# Altium footprint library Connector_PinSocket_2.00mm.PcbLib: 278 footprints (part 2 of 18)
Each footprint in its own frame and in the unit in brackets; x right, y up, seen from the top. Pads: shape width x height; smd on the part's side, far side on the other; paste and mask are expansions set on the pad; w line width, h text height; cw(c..) or ccw(c..) is an arc to the next point about the centre after c.
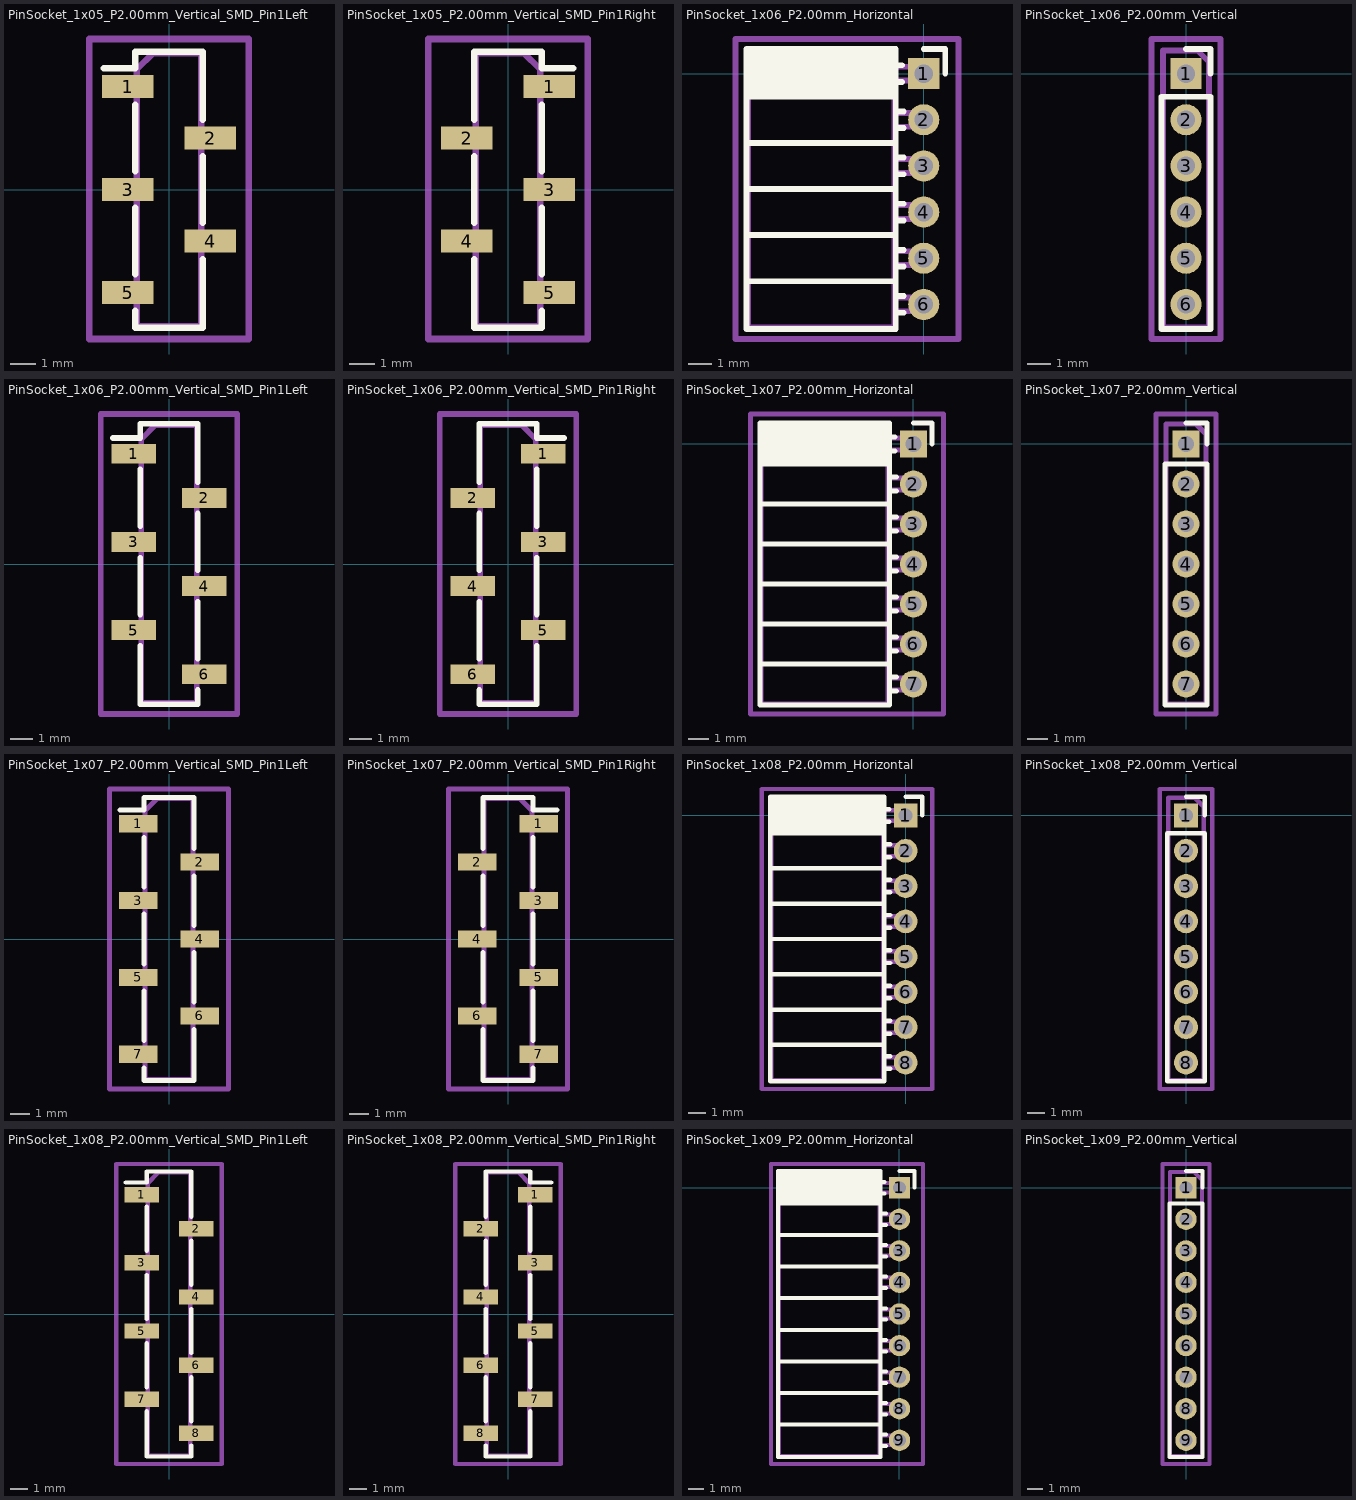
[diagram p1: the footprints below, top view; thin cyan lines are the x and y axes]

## PinSocket_1x05_P2.00mm_Vertical_SMD_Pin1Left [mm]
pads (5):
  rect 2x0.9 smd: 1(-1.6,4) 2(1.6,2) 3(-1.6,0) 4(1.6,-2) 5(-1.6,-4)
F.SilkS:
  lines w0.254: -2.54,4.71 -1.31,4.71 -1.31,5.36 1.31,5.36 1.31,2.71 ; -1.31,-4.71 -1.31,-5.36 1.31,-5.36 1.31,-2.71 ; -1.31,-3.29 -1.31,-0.71 ; -1.31,0.71 -1.31,3.29 ; 1.31,-1.29 1.31,1.29
Top Assembly:
  lines w0.254: -1.25,-4.25 -2.1,-4.25 -2.1,-3.75 -1.25,-3.75 ; -1.25,-0.25 -2.1,-0.25 -2.1,0.25 -1.25,0.25 ; -1.25,3.75 -2.1,3.75 -2.1,4.25 -1.25,4.25 ; 1.25,-2.25 2.1,-2.25 2.1,-1.75 1.25,-1.75 ; 1.25,1.75 2.1,1.75 2.1,2.25 1.25,2.25 ; -1.25,-5.3 1.25,-5.3 1.25,5.3 -0.625,5.3 -1.25,4.675 -1.25,-5.3
  text "'.Designator'" at 0.84,-4.047 h1
Top Courtyard:
  lines w0.254: -3.1,-5.8 3.1,-5.8 3.1,5.85 -3.1,5.85 -3.1,-5.8
Top Designator:
  text ".Designator" at -7.618,-0.483 h1.52

## PinSocket_1x05_P2.00mm_Vertical_SMD_Pin1Right [mm]
pads (5):
  rect 2x0.9 smd: 1(1.6,4) 2(-1.6,2) 3(1.6,0) 4(-1.6,-2) 5(1.6,-4)
F.SilkS:
  lines w0.254: -1.31,-2.71 -1.31,-5.36 1.31,-5.36 1.31,-4.71 ; -1.31,-1.29 -1.31,1.29 ; -1.31,2.71 -1.31,5.36 1.31,5.36 1.31,4.71 2.54,4.71 ; 1.31,-3.29 1.31,-0.71 ; 1.31,0.71 1.31,3.29
Top Assembly:
  lines w0.254: -1.25,-2.25 -2.1,-2.25 -2.1,-1.75 -1.25,-1.75 ; -1.25,1.75 -2.1,1.75 -2.1,2.25 -1.25,2.25 ; 1.25,-4.25 2.1,-4.25 2.1,-3.75 1.25,-3.75 ; 1.25,-0.25 2.1,-0.25 2.1,0.25 1.25,0.25 ; 1.25,3.75 2.1,3.75 2.1,4.25 1.25,4.25 ; -1.25,-5.3 1.25,-5.3 1.25,4.675 0.625,5.3 -1.25,5.3 -1.25,-5.3
  text "'.Designator'" at 0.84,-4.047 h1
Top Courtyard:
  lines w0.254: -3.1,-5.8 3.1,-5.8 3.1,5.85 -3.1,5.85 -3.1,-5.8
Top Designator:
  text ".Designator" at -7.618,-0.483 h1.52

## PinSocket_1x06_P2.00mm_Horizontal [mm]
pads (6):
  rect 1.35x1.35 hole 0.8: 1(0,0)
  round 1.35 hole 0.8: 2(0,-2) 3(0,-4) 4(0,-6) 5(0,-8) 6(0,-10)
F.SilkS:
  lines w0.254: -7.68,-9 -1.21,-9 ; -7.68,-7 -1.21,-7 ; -7.68,-5 -1.21,-5 ; -7.68,-3 -1.21,-3 ; -7.68,-1 -1.21,-1 ; -7.68,-0.886 -1.21,-0.886 ; -7.68,-0.772 -1.21,-0.772 ; -7.68,-0.658 -1.21,-0.658 ; -7.68,-0.544 -1.21,-0.544 ; -7.68,-0.429 -1.21,-0.429 ; -7.68,-0.315 -1.21,-0.315 ; -7.68,-0.201 -1.21,-0.201 ; -7.68,-0.087 -1.21,-0.087 ; -7.68,0.027 -1.21,0.027 ; -7.68,0.141 -1.21,0.141 ; -7.68,0.255 -1.21,0.255 ; -7.68,0.369 -1.21,0.369 ; -7.68,0.484 -1.21,0.484 ; -7.68,0.598 -1.21,0.598 ; -7.68,0.712 -1.21,0.712 ; -7.68,0.826 -1.21,0.826 ; -7.68,0.94 -1.21,0.94 ; -1.21,-10.36 -0.863,-10.36 ; -1.21,-9.64 -0.863,-9.64 ; -1.21,-8.36 -0.863,-8.36 ; -1.21,-7.64 -0.863,-7.64 ; -1.21,-6.36 -0.863,-6.36 ; -1.21,-5.64 -0.863,-5.64 ; -1.21,-4.36 -0.863,-4.36 ; -1.21,-3.64 -0.863,-3.64 ; -1.21,-2.36 -0.863,-2.36 ; -1.21,-1.64 -0.863,-1.64 ; -1.21,-0.36 -0.935,-0.36 ; -1.21,0.36 -0.935,0.36 ; 0,1.06 0.935,1.06 0.935,0 ; -7.68,-11.06 -1.21,-11.06 -1.21,1.06 -7.68,1.06 -7.68,-11.06
Top Assembly:
  lines w0.254: -1.27,-10.3 0,-10.3 0,-9.7 -1.27,-9.7 ; -1.27,-8.3 0,-8.3 0,-7.7 -1.27,-7.7 ; -1.27,-6.3 0,-6.3 0,-5.7 -1.27,-5.7 ; -1.27,-4.3 0,-4.3 0,-3.7 -1.27,-3.7 ; -1.27,-2.3 0,-2.3 0,-1.7 -1.27,-1.7 ; -1.27,-0.3 0,-0.3 0,0.3 -1.27,0.3 ; -1.27,0.3 -1.27,-11 -7.62,-11 -7.62,1 -1.97,1 -1.27,0.3
  text "'.Designator'" at -3.605,-9.047 h1
Top Courtyard:
  lines w0.254: -8.15,-11.5 1.5,-11.5 1.5,1.5 -8.15,1.5 -8.15,-11.5
Top Designator:
  text ".Designator" at -10.943,-5.508 h1.52

## PinSocket_1x06_P2.00mm_Vertical [mm]
pads (6):
  rect 1.35x1.35 hole 0.8: 1(0,0)
  round 1.35 hole 0.8: 2(0,-2) 3(0,-4) 4(0,-6) 5(0,-8) 6(0,-10)
F.SilkS:
  lines w0.254: 0,1.06 1.06,1.06 1.06,0 ; -1.06,-11.06 1.06,-11.06 1.06,-1 -1.06,-1 -1.06,-11.06
Top Assembly:
  lines w0.254: -1,-11 1,-11 1,0.5 0.5,1 -1,1 -1,-11
  text "'.Designator'" at 0.84,-9.047 h1
Top Courtyard:
  lines w0.254: -1.5,-11.5 1.5,-11.5 1.5,1.5 -1.5,1.5 -1.5,-11.5
Top Designator:
  text ".Designator" at -7.618,-5.508 h1.52

## PinSocket_1x06_P2.00mm_Vertical_SMD_Pin1Left [mm]
pads (6):
  rect 2x0.9 smd: 1(-1.6,5) 2(1.6,3) 3(-1.6,1) 4(1.6,-1) 5(-1.6,-3) 6(1.6,-5)
F.SilkS:
  lines w0.254: -2.54,5.71 -1.31,5.71 -1.31,6.36 1.31,6.36 1.31,3.71 ; -1.31,-3.71 -1.31,-6.36 1.31,-6.36 1.31,-5.71 ; -1.31,-2.29 -1.31,0.29 ; -1.31,1.71 -1.31,4.29 ; 1.31,-4.29 1.31,-1.71 ; 1.31,-0.29 1.31,2.29
Top Assembly:
  lines w0.254: -1.25,-3.25 -2.1,-3.25 -2.1,-2.75 -1.25,-2.75 ; -1.25,0.75 -2.1,0.75 -2.1,1.25 -1.25,1.25 ; -1.25,4.75 -2.1,4.75 -2.1,5.25 -1.25,5.25 ; 1.25,-5.25 2.1,-5.25 2.1,-4.75 1.25,-4.75 ; 1.25,-1.25 2.1,-1.25 2.1,-0.75 1.25,-0.75 ; 1.25,2.75 2.1,2.75 2.1,3.25 1.25,3.25 ; -1.25,-6.3 1.25,-6.3 1.25,6.3 -0.625,6.3 -1.25,5.675 -1.25,-6.3
  text "'.Designator'" at 0.84,-4.047 h1
Top Courtyard:
  lines w0.254: -3.1,-6.8 3.1,-6.8 3.1,6.8 -3.1,6.8 -3.1,-6.8
Top Designator:
  text ".Designator" at -7.618,-0.508 h1.52

## PinSocket_1x06_P2.00mm_Vertical_SMD_Pin1Right [mm]
pads (6):
  rect 2x0.9 smd: 1(1.6,5) 2(-1.6,3) 3(1.6,1) 4(-1.6,-1) 5(1.6,-3) 6(-1.6,-5)
F.SilkS:
  lines w0.254: -1.31,-5.71 -1.31,-6.36 1.31,-6.36 1.31,-3.71 ; -1.31,-4.29 -1.31,-1.71 ; -1.31,-0.29 -1.31,2.29 ; -1.31,3.71 -1.31,6.36 1.31,6.36 1.31,5.71 2.54,5.71 ; 1.31,-2.29 1.31,0.29 ; 1.31,1.71 1.31,4.29
Top Assembly:
  lines w0.254: -1.25,-5.25 -2.1,-5.25 -2.1,-4.75 -1.25,-4.75 ; -1.25,-1.25 -2.1,-1.25 -2.1,-0.75 -1.25,-0.75 ; -1.25,2.75 -2.1,2.75 -2.1,3.25 -1.25,3.25 ; 1.25,-3.25 2.1,-3.25 2.1,-2.75 1.25,-2.75 ; 1.25,0.75 2.1,0.75 2.1,1.25 1.25,1.25 ; 1.25,4.75 2.1,4.75 2.1,5.25 1.25,5.25 ; -1.25,-6.3 1.25,-6.3 1.25,5.675 0.625,6.3 -1.25,6.3 -1.25,-6.3
  text "'.Designator'" at 0.84,-4.047 h1
Top Courtyard:
  lines w0.254: -3.1,-6.8 3.1,-6.8 3.1,6.8 -3.1,6.8 -3.1,-6.8
Top Designator:
  text ".Designator" at -7.618,-0.508 h1.52

## PinSocket_1x07_P2.00mm_Horizontal [mm]
pads (7):
  rect 1.35x1.35 hole 0.8: 1(0,0)
  round 1.35 hole 0.8: 2(0,-2) 3(0,-4) 4(0,-6) 5(0,-8) 6(0,-10) 7(0,-12)
F.SilkS:
  lines w0.254: -7.68,-11 -1.21,-11 ; -7.68,-9 -1.21,-9 ; -7.68,-7 -1.21,-7 ; -7.68,-5 -1.21,-5 ; -7.68,-3 -1.21,-3 ; -7.68,-1 -1.21,-1 ; -7.68,-0.886 -1.21,-0.886 ; -7.68,-0.772 -1.21,-0.772 ; -7.68,-0.658 -1.21,-0.658 ; -7.68,-0.544 -1.21,-0.544 ; -7.68,-0.429 -1.21,-0.429 ; -7.68,-0.315 -1.21,-0.315 ; -7.68,-0.201 -1.21,-0.201 ; -7.68,-0.087 -1.21,-0.087 ; -7.68,0.027 -1.21,0.027 ; -7.68,0.141 -1.21,0.141 ; -7.68,0.255 -1.21,0.255 ; -7.68,0.369 -1.21,0.369 ; -7.68,0.484 -1.21,0.484 ; -7.68,0.598 -1.21,0.598 ; -7.68,0.712 -1.21,0.712 ; -7.68,0.826 -1.21,0.826 ; -7.68,0.94 -1.21,0.94 ; -1.21,-12.36 -0.863,-12.36 ; -1.21,-11.64 -0.863,-11.64 ; -1.21,-10.36 -0.863,-10.36 ; -1.21,-9.64 -0.863,-9.64 ; -1.21,-8.36 -0.863,-8.36 ; -1.21,-7.64 -0.863,-7.64 ; -1.21,-6.36 -0.863,-6.36 ; -1.21,-5.64 -0.863,-5.64 ; -1.21,-4.36 -0.863,-4.36 ; -1.21,-3.64 -0.863,-3.64 ; -1.21,-2.36 -0.863,-2.36 ; -1.21,-1.64 -0.863,-1.64 ; -1.21,-0.36 -0.935,-0.36 ; -1.21,0.36 -0.935,0.36 ; 0,1.06 0.935,1.06 0.935,0 ; -7.68,-13.06 -1.21,-13.06 -1.21,1.06 -7.68,1.06 -7.68,-13.06
Top Assembly:
  lines w0.254: -1.27,-12.3 0,-12.3 0,-11.7 -1.27,-11.7 ; -1.27,-10.3 0,-10.3 0,-9.7 -1.27,-9.7 ; -1.27,-8.3 0,-8.3 0,-7.7 -1.27,-7.7 ; -1.27,-6.3 0,-6.3 0,-5.7 -1.27,-5.7 ; -1.27,-4.3 0,-4.3 0,-3.7 -1.27,-3.7 ; -1.27,-2.3 0,-2.3 0,-1.7 -1.27,-1.7 ; -1.27,-0.3 0,-0.3 0,0.3 -1.27,0.3 ; -1.27,0.3 -1.27,-13 -7.62,-13 -7.62,1 -1.97,1 -1.27,0.3
  text "'.Designator'" at -3.605,-10.047 h1
Top Courtyard:
  lines w0.254: -8.15,-13.5 1.5,-13.5 1.5,1.5 -8.15,1.5 -8.15,-13.5
Top Designator:
  text ".Designator" at -10.943,-6.508 h1.52

## PinSocket_1x07_P2.00mm_Vertical [mm]
pads (7):
  rect 1.35x1.35 hole 0.8: 1(0,0)
  round 1.35 hole 0.8: 2(0,-2) 3(0,-4) 4(0,-6) 5(0,-8) 6(0,-10) 7(0,-12)
F.SilkS:
  lines w0.254: 0,1.06 1.06,1.06 1.06,0 ; -1.06,-13.06 1.06,-13.06 1.06,-1 -1.06,-1 -1.06,-13.06
Top Assembly:
  lines w0.254: -1,-13 1,-13 1,0.5 0.5,1 -1,1 -1,-13
  text "'.Designator'" at 0.84,-10.047 h1
Top Courtyard:
  lines w0.254: -1.5,-13.5 1.5,-13.5 1.5,1.5 -1.5,1.5 -1.5,-13.5
Top Designator:
  text ".Designator" at -7.618,-6.508 h1.52

## PinSocket_1x07_P2.00mm_Vertical_SMD_Pin1Left [mm]
pads (7):
  rect 2x0.9 smd: 1(-1.6,6) 2(1.6,4) 3(-1.6,2) 4(1.6,0) 5(-1.6,-2) 6(1.6,-4) 7(-1.6,-6)
F.SilkS:
  lines w0.254: -2.54,6.71 -1.31,6.71 -1.31,7.36 1.31,7.36 1.31,4.71 ; -1.31,-6.71 -1.31,-7.36 1.31,-7.36 1.31,-4.71 ; -1.31,-5.29 -1.31,-2.71 ; -1.31,-1.29 -1.31,1.29 ; -1.31,2.71 -1.31,5.29 ; 1.31,-3.29 1.31,-0.71 ; 1.31,0.71 1.31,3.29
Top Assembly:
  lines w0.254: -1.25,-6.25 -2.1,-6.25 -2.1,-5.75 -1.25,-5.75 ; -1.25,-2.25 -2.1,-2.25 -2.1,-1.75 -1.25,-1.75 ; -1.25,1.75 -2.1,1.75 -2.1,2.25 -1.25,2.25 ; -1.25,5.75 -2.1,5.75 -2.1,6.25 -1.25,6.25 ; 1.25,-4.25 2.1,-4.25 2.1,-3.75 1.25,-3.75 ; 1.25,-0.25 2.1,-0.25 2.1,0.25 1.25,0.25 ; 1.25,3.75 2.1,3.75 2.1,4.25 1.25,4.25 ; -1.25,-7.3 1.25,-7.3 1.25,7.3 -0.625,7.3 -1.25,6.675 -1.25,-7.3
  text "'.Designator'" at 0.84,-4.047 h1
Top Courtyard:
  lines w0.254: -3.1,-7.8 3.1,-7.8 3.1,7.8 -3.1,7.8 -3.1,-7.8
Top Designator:
  text ".Designator" at -7.618,-0.508 h1.52

## PinSocket_1x07_P2.00mm_Vertical_SMD_Pin1Right [mm]
pads (7):
  rect 2x0.9 smd: 1(1.6,6) 2(-1.6,4) 3(1.6,2) 4(-1.6,0) 5(1.6,-2) 6(-1.6,-4) 7(1.6,-6)
F.SilkS:
  lines w0.254: -1.31,-4.71 -1.31,-7.36 1.31,-7.36 1.31,-6.71 ; -1.31,-3.29 -1.31,-0.71 ; -1.31,0.71 -1.31,3.29 ; -1.31,4.71 -1.31,7.36 1.31,7.36 1.31,6.71 2.54,6.71 ; 1.31,-5.29 1.31,-2.71 ; 1.31,-1.29 1.31,1.29 ; 1.31,2.71 1.31,5.29
Top Assembly:
  lines w0.254: -1.25,-4.25 -2.1,-4.25 -2.1,-3.75 -1.25,-3.75 ; -1.25,-0.25 -2.1,-0.25 -2.1,0.25 -1.25,0.25 ; -1.25,3.75 -2.1,3.75 -2.1,4.25 -1.25,4.25 ; 1.25,-6.25 2.1,-6.25 2.1,-5.75 1.25,-5.75 ; 1.25,-2.25 2.1,-2.25 2.1,-1.75 1.25,-1.75 ; 1.25,1.75 2.1,1.75 2.1,2.25 1.25,2.25 ; 1.25,5.75 2.1,5.75 2.1,6.25 1.25,6.25 ; -1.25,-7.3 1.25,-7.3 1.25,6.675 0.625,7.3 -1.25,7.3 -1.25,-7.3
  text "'.Designator'" at 0.84,-4.047 h1
Top Courtyard:
  lines w0.254: -3.1,-7.8 3.1,-7.8 3.1,7.8 -3.1,7.8 -3.1,-7.8
Top Designator:
  text ".Designator" at -7.618,-0.508 h1.52

## PinSocket_1x08_P2.00mm_Horizontal [mm]
pads (8):
  rect 1.35x1.35 hole 0.8: 1(0,0)
  round 1.35 hole 0.8: 2(0,-2) 3(0,-4) 4(0,-6) 5(0,-8) 6(0,-10) 7(0,-12) 8(0,-14)
F.SilkS:
  lines w0.254: -7.68,-13 -1.21,-13 ; -7.68,-11 -1.21,-11 ; -7.68,-9 -1.21,-9 ; -7.68,-7 -1.21,-7 ; -7.68,-5 -1.21,-5 ; -7.68,-3 -1.21,-3 ; -7.68,-1 -1.21,-1 ; -7.68,-0.886 -1.21,-0.886 ; -7.68,-0.772 -1.21,-0.772 ; -7.68,-0.658 -1.21,-0.658 ; -7.68,-0.544 -1.21,-0.544 ; -7.68,-0.429 -1.21,-0.429 ; -7.68,-0.315 -1.21,-0.315 ; -7.68,-0.201 -1.21,-0.201 ; -7.68,-0.087 -1.21,-0.087 ; -7.68,0.027 -1.21,0.027 ; -7.68,0.141 -1.21,0.141 ; -7.68,0.255 -1.21,0.255 ; -7.68,0.369 -1.21,0.369 ; -7.68,0.484 -1.21,0.484 ; -7.68,0.598 -1.21,0.598 ; -7.68,0.712 -1.21,0.712 ; -7.68,0.826 -1.21,0.826 ; -7.68,0.94 -1.21,0.94 ; -1.21,-14.36 -0.863,-14.36 ; -1.21,-13.64 -0.863,-13.64 ; -1.21,-12.36 -0.863,-12.36 ; -1.21,-11.64 -0.863,-11.64 ; -1.21,-10.36 -0.863,-10.36 ; -1.21,-9.64 -0.863,-9.64 ; -1.21,-8.36 -0.863,-8.36 ; -1.21,-7.64 -0.863,-7.64 ; -1.21,-6.36 -0.863,-6.36 ; -1.21,-5.64 -0.863,-5.64 ; -1.21,-4.36 -0.863,-4.36 ; -1.21,-3.64 -0.863,-3.64 ; -1.21,-2.36 -0.863,-2.36 ; -1.21,-1.64 -0.863,-1.64 ; -1.21,-0.36 -0.935,-0.36 ; -1.21,0.36 -0.935,0.36 ; 0,1.06 0.935,1.06 0.935,0 ; -7.68,-15.06 -1.21,-15.06 -1.21,1.06 -7.68,1.06 -7.68,-15.06
Top Assembly:
  lines w0.254: -1.27,-14.3 0,-14.3 0,-13.7 -1.27,-13.7 ; -1.27,-12.3 0,-12.3 0,-11.7 -1.27,-11.7 ; -1.27,-10.3 0,-10.3 0,-9.7 -1.27,-9.7 ; -1.27,-8.3 0,-8.3 0,-7.7 -1.27,-7.7 ; -1.27,-6.3 0,-6.3 0,-5.7 -1.27,-5.7 ; -1.27,-4.3 0,-4.3 0,-3.7 -1.27,-3.7 ; -1.27,-2.3 0,-2.3 0,-1.7 -1.27,-1.7 ; -1.27,-0.3 0,-0.3 0,0.3 -1.27,0.3 ; -1.27,0.3 -1.27,-15 -7.62,-15 -7.62,1 -1.97,1 -1.27,0.3
  text "'.Designator'" at -3.605,-11.047 h1
Top Courtyard:
  lines w0.254: -8.15,-15.5 1.5,-15.5 1.5,1.5 -8.15,1.5 -8.15,-15.5
Top Designator:
  text ".Designator" at -10.943,-7.508 h1.52

## PinSocket_1x08_P2.00mm_Vertical [mm]
pads (8):
  rect 1.35x1.35 hole 0.8: 1(0,0)
  round 1.35 hole 0.8: 2(0,-2) 3(0,-4) 4(0,-6) 5(0,-8) 6(0,-10) 7(0,-12) 8(0,-14)
F.SilkS:
  lines w0.254: 0,1.06 1.06,1.06 1.06,0 ; -1.06,-15.06 1.06,-15.06 1.06,-1 -1.06,-1 -1.06,-15.06
Top Assembly:
  lines w0.254: -1,-15 1,-15 1,0.5 0.5,1 -1,1 -1,-15
  text "'.Designator'" at 0.84,-11.047 h1
Top Courtyard:
  lines w0.254: -1.5,-15.5 1.5,-15.5 1.5,1.5 -1.5,1.5 -1.5,-15.5
Top Designator:
  text ".Designator" at -7.618,-7.508 h1.52

## PinSocket_1x08_P2.00mm_Vertical_SMD_Pin1Left [mm]
pads (8):
  rect 2x0.9 smd: 1(-1.6,7) 2(1.6,5) 3(-1.6,3) 4(1.6,1) 5(-1.6,-1) 6(1.6,-3) 7(-1.6,-5) 8(1.6,-7)
F.SilkS:
  lines w0.254: -2.54,7.71 -1.31,7.71 -1.31,8.36 1.31,8.36 1.31,5.71 ; -1.31,-5.71 -1.31,-8.36 1.31,-8.36 1.31,-7.71 ; -1.31,-4.29 -1.31,-1.71 ; -1.31,-0.29 -1.31,2.29 ; -1.31,3.71 -1.31,6.29 ; 1.31,-6.29 1.31,-3.71 ; 1.31,-2.29 1.31,0.29 ; 1.31,1.71 1.31,4.29
Top Assembly:
  lines w0.254: -1.25,-5.25 -2.1,-5.25 -2.1,-4.75 -1.25,-4.75 ; -1.25,-1.25 -2.1,-1.25 -2.1,-0.75 -1.25,-0.75 ; -1.25,2.75 -2.1,2.75 -2.1,3.25 -1.25,3.25 ; -1.25,6.75 -2.1,6.75 -2.1,7.25 -1.25,7.25 ; 1.25,-7.25 2.1,-7.25 2.1,-6.75 1.25,-6.75 ; 1.25,-3.25 2.1,-3.25 2.1,-2.75 1.25,-2.75 ; 1.25,0.75 2.1,0.75 2.1,1.25 1.25,1.25 ; 1.25,4.75 2.1,4.75 2.1,5.25 1.25,5.25 ; -1.25,-8.3 1.25,-8.3 1.25,8.3 -0.625,8.3 -1.25,7.675 -1.25,-8.3
  text "'.Designator'" at 0.84,-4.047 h1
Top Courtyard:
  lines w0.254: -3.1,-8.8 3.1,-8.8 3.1,8.8 -3.1,8.8 -3.1,-8.8
Top Designator:
  text ".Designator" at -7.618,-0.508 h1.52

## PinSocket_1x08_P2.00mm_Vertical_SMD_Pin1Right [mm]
pads (8):
  rect 2x0.9 smd: 1(1.6,7) 2(-1.6,5) 3(1.6,3) 4(-1.6,1) 5(1.6,-1) 6(-1.6,-3) 7(1.6,-5) 8(-1.6,-7)
F.SilkS:
  lines w0.254: -1.31,-7.71 -1.31,-8.36 1.31,-8.36 1.31,-5.71 ; -1.31,-6.29 -1.31,-3.71 ; -1.31,-2.29 -1.31,0.29 ; -1.31,1.71 -1.31,4.29 ; -1.31,5.71 -1.31,8.36 1.31,8.36 1.31,7.71 2.54,7.71 ; 1.31,-4.29 1.31,-1.71 ; 1.31,-0.29 1.31,2.29 ; 1.31,3.71 1.31,6.29
Top Assembly:
  lines w0.254: -1.25,-7.25 -2.1,-7.25 -2.1,-6.75 -1.25,-6.75 ; -1.25,-3.25 -2.1,-3.25 -2.1,-2.75 -1.25,-2.75 ; -1.25,0.75 -2.1,0.75 -2.1,1.25 -1.25,1.25 ; -1.25,4.75 -2.1,4.75 -2.1,5.25 -1.25,5.25 ; 1.25,-5.25 2.1,-5.25 2.1,-4.75 1.25,-4.75 ; 1.25,-1.25 2.1,-1.25 2.1,-0.75 1.25,-0.75 ; 1.25,2.75 2.1,2.75 2.1,3.25 1.25,3.25 ; 1.25,6.75 2.1,6.75 2.1,7.25 1.25,7.25 ; -1.25,-8.3 1.25,-8.3 1.25,7.675 0.625,8.3 -1.25,8.3 -1.25,-8.3
  text "'.Designator'" at 0.84,-4.047 h1
Top Courtyard:
  lines w0.254: -3.1,-8.8 3.1,-8.8 3.1,8.8 -3.1,8.8 -3.1,-8.8
Top Designator:
  text ".Designator" at -7.618,-0.508 h1.52

## PinSocket_1x09_P2.00mm_Horizontal [mm]
pads (9):
  rect 1.35x1.35 hole 0.8: 1(0,0)
  round 1.35 hole 0.8: 2(0,-2) 3(0,-4) 4(0,-6) 5(0,-8) 6(0,-10) 7(0,-12) 8(0,-14) 9(0,-16)
F.SilkS:
  lines w0.254: -7.68,-15 -1.21,-15 ; -7.68,-13 -1.21,-13 ; -7.68,-11 -1.21,-11 ; -7.68,-9 -1.21,-9 ; -7.68,-7 -1.21,-7 ; -7.68,-5 -1.21,-5 ; -7.68,-3 -1.21,-3 ; -7.68,-1 -1.21,-1 ; -7.68,-0.886 -1.21,-0.886 ; -7.68,-0.772 -1.21,-0.772 ; -7.68,-0.658 -1.21,-0.658 ; -7.68,-0.544 -1.21,-0.544 ; -7.68,-0.429 -1.21,-0.429 ; -7.68,-0.315 -1.21,-0.315 ; -7.68,-0.201 -1.21,-0.201 ; -7.68,-0.087 -1.21,-0.087 ; -7.68,0.027 -1.21,0.027 ; -7.68,0.141 -1.21,0.141 ; -7.68,0.255 -1.21,0.255 ; -7.68,0.369 -1.21,0.369 ; -7.68,0.484 -1.21,0.484 ; -7.68,0.598 -1.21,0.598 ; -7.68,0.712 -1.21,0.712 ; -7.68,0.826 -1.21,0.826 ; -7.68,0.94 -1.21,0.94 ; -1.21,-16.36 -0.863,-16.36 ; -1.21,-15.64 -0.863,-15.64 ; -1.21,-14.36 -0.863,-14.36 ; -1.21,-13.64 -0.863,-13.64 ; -1.21,-12.36 -0.863,-12.36 ; -1.21,-11.64 -0.863,-11.64 ; -1.21,-10.36 -0.863,-10.36 ; -1.21,-9.64 -0.863,-9.64 ; -1.21,-8.36 -0.863,-8.36 ; -1.21,-7.64 -0.863,-7.64 ; -1.21,-6.36 -0.863,-6.36 ; -1.21,-5.64 -0.863,-5.64 ; -1.21,-4.36 -0.863,-4.36 ; -1.21,-3.64 -0.863,-3.64 ; -1.21,-2.36 -0.863,-2.36 ; -1.21,-1.64 -0.863,-1.64 ; -1.21,-0.36 -0.935,-0.36 ; -1.21,0.36 -0.935,0.36 ; 0,1.06 0.935,1.06 0.935,0 ; -7.68,-17.06 -1.21,-17.06 -1.21,1.06 -7.68,1.06 -7.68,-17.06
Top Assembly:
  lines w0.254: -1.27,-16.3 0,-16.3 0,-15.7 -1.27,-15.7 ; -1.27,-14.3 0,-14.3 0,-13.7 -1.27,-13.7 ; -1.27,-12.3 0,-12.3 0,-11.7 -1.27,-11.7 ; -1.27,-10.3 0,-10.3 0,-9.7 -1.27,-9.7 ; -1.27,-8.3 0,-8.3 0,-7.7 -1.27,-7.7 ; -1.27,-6.3 0,-6.3 0,-5.7 -1.27,-5.7 ; -1.27,-4.3 0,-4.3 0,-3.7 -1.27,-3.7 ; -1.27,-2.3 0,-2.3 0,-1.7 -1.27,-1.7 ; -1.27,-0.3 0,-0.3 0,0.3 -1.27,0.3 ; -1.27,0.3 -1.27,-17 -7.62,-17 -7.62,1 -1.97,1 -1.27,0.3
  text "'.Designator'" at -3.605,-12.047 h1
Top Courtyard:
  lines w0.254: -8.15,-17.5 1.5,-17.5 1.5,1.5 -8.15,1.5 -8.15,-17.5
Top Designator:
  text ".Designator" at -10.943,-8.508 h1.52

## PinSocket_1x09_P2.00mm_Vertical [mm]
pads (9):
  rect 1.35x1.35 hole 0.8: 1(0,0)
  round 1.35 hole 0.8: 2(0,-2) 3(0,-4) 4(0,-6) 5(0,-8) 6(0,-10) 7(0,-12) 8(0,-14) 9(0,-16)
F.SilkS:
  lines w0.254: 0,1.06 1.06,1.06 1.06,0 ; -1.06,-17.06 1.06,-17.06 1.06,-1 -1.06,-1 -1.06,-17.06
Top Assembly:
  lines w0.254: -1,-17 1,-17 1,0.5 0.5,1 -1,1 -1,-17
  text "'.Designator'" at 0.84,-12.047 h1
Top Courtyard:
  lines w0.254: -1.5,-17.5 1.5,-17.5 1.5,1.5 -1.5,1.5 -1.5,-17.5
Top Designator:
  text ".Designator" at -7.618,-8.508 h1.52